# EAGLE library part CCARD (library carrinho)
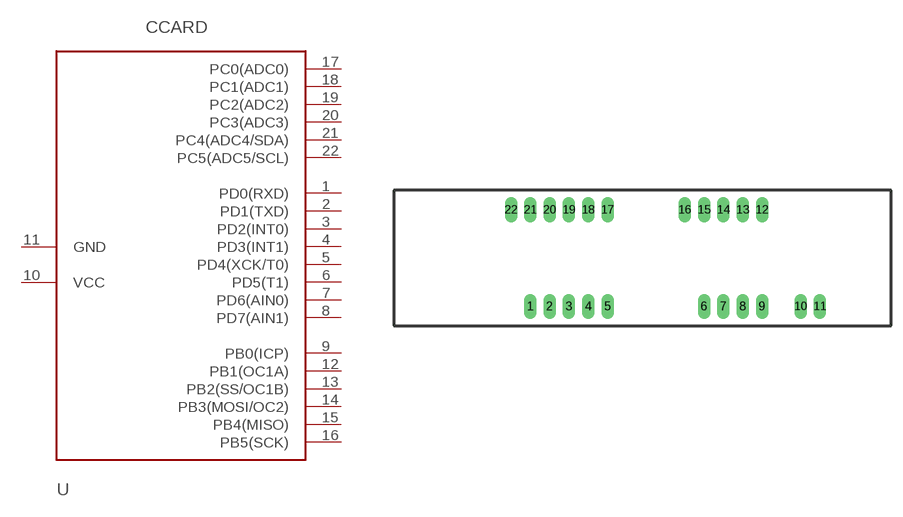
[diagram p5: symbol with the pads of CCARD; footprint CCARD]

Designator prefix -

## CCARD  [CCARD]
1  PD0(RXD)
2  PD1(TXD)
3  PD2(INT0)
4  PD3(INT1)
5  PD4(XCK/T0)
6  PD5(T1)
7  PD6(AIN0)
8  PD7(AIN1)
9  PB0(ICP)
10  VCC
11  GND
12  PB1(OC1A)
13  PB2(SS/OC1B)
14  PB3(MOSI/OC2)
15  PB4(MISO)
16  PB5(SCK)
17  PC0(ADC0)
18  PC1(ADC1)
19  PC2(ADC2)
20  PC3(ADC3)
21  PC4(ADC4/SDA)
22  PC5(ADC5/SCL)

## Footprint CCARD (pad centres in mm)
drill 1.1 long: 1 -15.24,-6.35; 2 -12.7,-6.35; 3 -10.16,-6.35; 4 -7.62,-6.35; 5 -5.08,-6.35; 6 7.62,-6.35; 7 10.16,-6.35; 8 12.7,-6.35; 9 15.24,-6.35; 10 20.32,-6.35; 11 22.86,-6.35; 12 15.24,6.35; 13 12.7,6.35; 14 10.16,6.35; 15 7.62,6.35; 16 5.08,6.35; 17 -5.08,6.35; 18 -7.62,6.35; 19 -10.16,6.35; 20 -12.7,6.35; 21 -15.24,6.35; 22 -17.78,6.35